# Altium footprint library BAT54-7-F.PcbLib: 2 footprints
Each footprint in its own frame and in the unit in brackets; x right, y up, seen from the top. Pads: shape width x height; smd on the part's side, far side on the other; paste and mask are expansions set on the pad; w line width, h text height; cw(c..) or ccw(c..) is an arc to the next point about the centre after c.
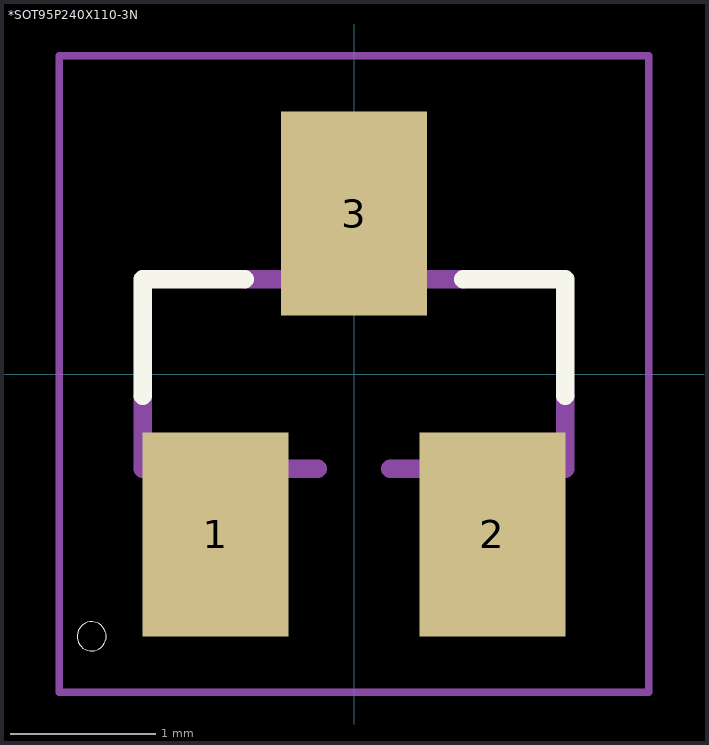
[diagram p0: the footprints below, top view; thin cyan lines are the x and y axes]

## *SOT95P240X110-3N [mm]
pads (3):
  rect 1x1.4 smd: 1(-0.95,-1.1) 2(0.95,-1.1) 3(0,1.1)
Top Overlay:
  circle w0: c-1.8,-1.8 r0.1
  lines w0.127: -1.45,-0.15 -1.45,0.65 -0.75,0.65 ; 0.75,0.65 1.45,0.65 1.45,-0.15
Mechanical 4:
  region: -1.169,-0.711 -0.711,-0.711 -0.711,-1.296 -1.169,-1.296
  region: 0.712,-0.711 1.168,-0.711 1.168,-1.298 0.712,-1.298
  region: -0.229,1.295 0.229,1.295 0.229,0.713 -0.229,0.713
  region: -1.169,-0.711 -0.711,-0.711 -0.711,-1.296 -1.169,-1.296
  region: 0.712,-0.711 1.168,-0.711 1.168,-1.298 0.712,-1.298
  region: -0.229,1.295 0.229,1.295 0.229,0.713 -0.229,0.713
  lines w0.127: -1.45,-0.65 -0.25,-0.65 -1.45,-0.65 ; -1.45,-0.65 -1.45,-0.15 -1.45,-0.65 ; 1.45,-0.65 1.45,-0.15 1.45,-0.65 ; 1.45,-0.65 0.25,-0.65 1.45,-0.65 ; -0.75,0.65 0.75,0.65 -0.75,0.65
Mechanical 16:
  lines w0.051: -2.023,-2.183 -2.023,2.183 2.023,2.183 2.023,-2.183 -2.023,-2.183

## PCBComponent_1 [mm]